# Altium schematic symbol library USB-M26FTR.SchLib: 1 symbol
Pins are listed as number, name and electrical type; pins without a type are passive.

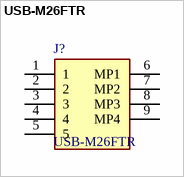
[diagram p0: symbol USB-M26FTR]

## USB-M26FTR
designator J?
Conn Mini USB Type B RCP 5 POS 0.8mm Solder RA SMD 10 Terminal 1 Port T/R; Manufacturer_Name: On Shore Technology Inc.; Geometry.Height: 3.95mm; Manufacturer_Part_Number: USB-M26FTR; Arrow Part Number: USB-M26FTR; Arrow Price/Stock: https://www.arrow.com/en/products/usb-m26ftr/on-shore-technology?region=nac; Datasheet Link: https://www.on-shore.com/wp-content/uploads/USB-M26FXX.pdf
footprint USBM26FTR
pins: 1, 2, 3, 4, 5, 6 MP1, 7 MP2, 8 MP3, 9 MP4